# Altium footprint library RT9193-33GB.PcbLib: 3 footprints
Each footprint in its own frame and in the unit in brackets; x right, y up, seen from the top. Pads: shape width x height; smd on the part's side, far side on the other; paste and mask are expansions set on the pad; w line width, h text height; cw(c..) or ccw(c..) is an arc to the next point about the centre after c.
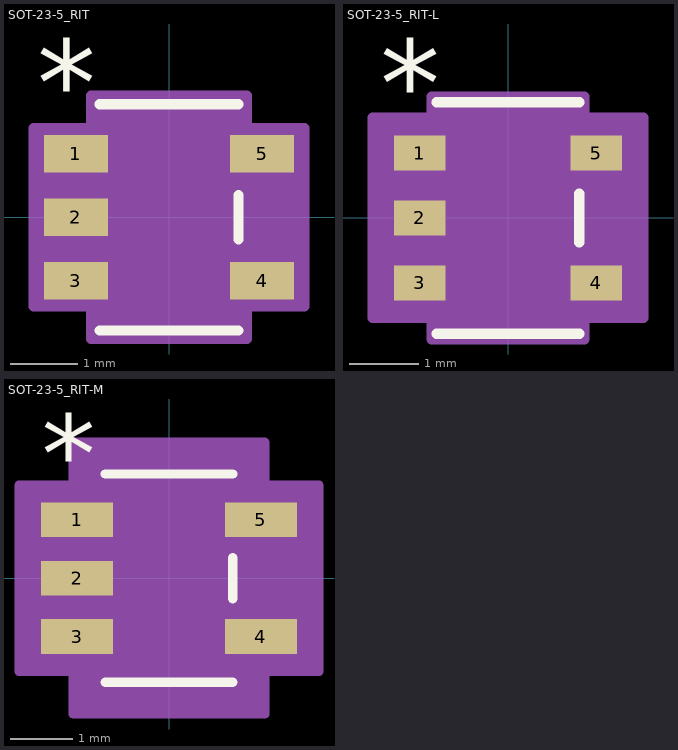
[diagram p0: the footprints below, top view; thin cyan lines are the x and y axes]

## SOT-23-5_RIT [mil]
pads (5):
  rect 37.5x22 smd paste+0 mask+0: 1(-54.25,36.99) 2(-54.25,0) 3(-54.25,-36.99) 4(54.25,-36.99) 5(54.25,36.99)
Top Overlay:
  lines w6: -40.5,-66 40.5,-66 ; -40.5,66 40.5,66 ; 40.5,-12.89 40.5,12.89
  text "*" at -76.75,53.99 h50
Mechanical 13:
  lines w0: -12,61 ccw(c0,61) 12,61
  lines w1: -59,-47.99 -35.5,-47.99 -35.5,-25.99 -59,-25.99 -59,-47.99 ; -59,-11 -35.5,-11 -35.5,11 -59,11 -59,-11 ; -59,25.99 -35.5,25.99 -35.5,47.99 -59,47.99 -59,25.99 ; -35.5,-61 -35.5,61 35.5,61 35.5,-61 -35.5,-61 ; 35.5,-47.99 59,-47.99 59,-25.99 35.5,-25.99 35.5,-47.99 ; 35.5,25.99 59,25.99 59,47.99 35.5,47.99 35.5,25.99
  text "*" at -38,10.99 h50
Mechanical 15:
  region: 45.5,-71 -45.5,-71 -45.5,-51.99 -79,-51.99 -79,51.99 -45.5,51.99 -45.5,71 45.5,71 45.5,51.99 79,51.99 79,-51.99 45.5,-51.99
  lines w6: -79,-51.99 -79,51.99 -45.5,51.99 -45.5,71 45.5,71 45.5,51.99 79,51.99 79,-51.99 45.5,-51.99 45.5,-71 -45.5,-71 -45.5,-51.99 -79,-51.99
3D body "SOT-23-5_RIT.step": height 51.1, standoff 0, extent -59.02,-60.98 59.02,60.98

## SOT-23-5_RIT-L [mil]
pads (5):
  rect 29.5x20 smd paste+0 mask+0: 1(-50.25,36.99) 2(-50.25,0) 3(-50.25,-36.99) 4(50.25,-36.99) 5(50.25,36.99)
Top Overlay:
  lines w6: -40.5,-66 40.5,-66 ; -40.5,66 40.5,66 ; 40.5,-13.89 40.5,13.89
  text "*" at -72.75,51.99 h50
Mechanical 13:
  lines w0: -12,61 ccw(c0,61) 12,61
  lines w1: -59,-47.99 -59,-25.99 -35.5,-25.99 -35.5,-47.99 -59,-47.99 ; -59,-11 -59,11 -35.5,11 -35.5,-11 -59,-11 ; -59,25.99 -59,47.99 -35.5,47.99 -35.5,25.99 -59,25.99 ; -35.5,-61 35.5,-61 35.5,61 -35.5,61 -35.5,-61 ; 35.5,-47.99 35.5,-25.99 59,-25.99 59,-47.99 35.5,-47.99 ; 35.5,25.99 35.5,47.99 59,47.99 59,25.99 35.5,25.99
  text "*" at -38,8.99 h50
Mechanical 15:
  region: 43.5,-69 -43.5,-69 -43.5,-56.99 -77,-56.99 -77,56.99 -43.5,56.99 -43.5,69 43.5,69 43.5,56.99 77,56.99 77,-56.99 43.5,-56.99
  lines w6: -77,-56.99 -43.5,-56.99 -43.5,-69 43.5,-69 43.5,-56.99 77,-56.99 77,56.99 43.5,56.99 43.5,69 -43.5,69 -43.5,56.99 -77,56.99 -77,-56.99
3D body "SOT-23-5_RIT.step": height 51.1, standoff 0, extent -59.02,-60.98 59.02,60.98

## SOT-23-5_RIT-M [mil]
pads (5):
  rect 45.5x22 smd paste+0 mask+0: 1(-58.25,36.99) 2(-58.25,0) 3(-58.25,-36.99) 4(58.25,-36.99) 5(58.25,36.99)
Top Overlay:
  lines w6: -40.5,-66 40.5,-66 ; -40.5,66 40.5,66 ; 40.5,-12.89 40.5,12.89
  text "*" at -80.75,53.99 h50
Mechanical 13:
  lines w0: -12,61 ccw(c0,61) 12,61
  lines w1: -59,-47.99 -59,-25.99 -35.5,-25.99 -35.5,-47.99 -59,-47.99 ; -59,-11 -59,11 -35.5,11 -35.5,-11 -59,-11 ; -59,25.99 -59,47.99 -35.5,47.99 -35.5,25.99 -59,25.99 ; -35.5,-61 35.5,-61 35.5,61 -35.5,61 -35.5,-61 ; 35.5,-47.99 35.5,-25.99 59,-25.99 59,-47.99 35.5,-47.99 ; 35.5,25.99 35.5,47.99 59,47.99 59,25.99 35.5,25.99
  text "*" at -38,10.99 h50
Mechanical 15:
  region: 60.5,-86 -60.5,-86 -60.5,-58.99 -95,-58.99 -95,58.99 -60.5,58.99 -60.5,86 60.5,86 60.5,58.99 95,58.99 95,-58.99 60.5,-58.99
  lines w6: -95,-58.99 -60.5,-58.99 -60.5,-86 60.5,-86 60.5,-58.99 95,-58.99 95,58.99 60.5,58.99 60.5,86 -60.5,86 -60.5,58.99 -95,58.99 -95,-58.99
3D body "SOT-23-5_RIT.step": height 51.1, standoff 0, extent -59.02,-60.98 59.02,60.98